# Altium schematic symbol library TEMINAL8.SchLib: 1 symbol
Pins are listed as number, name and electrical type; pins without a type are passive.

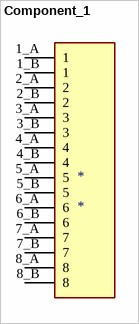
[diagram p0: symbol Component_1]

## Component_1
designator *
pins: 1_A 1, 1_B 1, 2_A 2, 2_B 2, 3_A 3, 3_B 3, 4_A 4, 4_B 4, 5_A 5, 5_B 5, 6_A 6, 6_B 6, 7_A 7, 7_B 7, 8_A 8, 8_B 8